# Altium footprint library GNSS.PcbLib: 2 footprints
Each footprint in its own frame and in the unit in brackets; x right, y up, seen from the top. Pads: shape width x height; smd on the part's side, far side on the other; paste and mask are expansions set on the pad; w line width, h text height; cw(c..) or ccw(c..) is an arc to the next point about the centre after c.
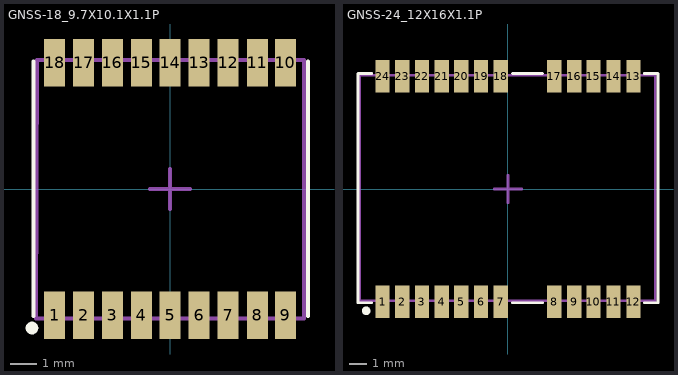
[diagram p0: the footprints below, top view; thin cyan lines are the x and y axes]

## GNSS-18_9.7X10.1X1.1P [mm]
height 2.4
pads (18):
  rect 0.8x1.8 smd: 1(-4.394,-4.813) 2(-3.294,-4.813) 3(-2.193,-4.813) 4(-1.092,-4.813) 5(0.008,-4.813) 6(1.109,-4.813) 7(2.21,-4.813) 8(3.327,-4.813) 9(4.394,-4.813) 10(4.394,4.813) 11(3.327,4.813) 12(2.21,4.813) 13(1.109,4.813) 14(0.008,4.813) 15(-1.092,4.813) 16(-2.193,4.813) 17(-3.294,4.813) 18(-4.394,4.813)
Top Overlay:
  circle w0.254: c-5.258,-5.296 r0.114
  lines w0.152: -5.207,-4.839 -5.207,4.861 ; 5.258,-4.839 5.258,4.861
Mechanical 13:
  lines w0.152: -5.105,-4.94 5.105,-4.94 5.105,4.915 -5.075,4.915 -5.105,-4.94
Mechanical 15:
  lines w0.152: -0.762,0 0.762,0 ; 0,-0.762 0,0.762
3D body "User Library-MAX-M8 u-blox M8 Concurrent GNSS Module.step": height 2.5, standoff 0, extent -5.075,-4.864 5.025,4.838

## GNSS-24_12X16X1.1P [mm]
height 2.4
pads (24):
  rect 0.8x1.8 smd: 1(-7.01,-6.299) 2(-5.91,-6.299) 3(-4.809,-6.299) 4(-3.708,-6.299) 5(-2.608,-6.299) 6(-1.507,-6.299) 7(-0.406,-6.299) 8(2.591,-6.299) 9(3.708,-6.299) 10(4.775,-6.299) 11(5.893,-6.299) 12(7.01,-6.299) 13(7.01,6.299) 14(5.893,6.299) 15(4.775,6.299) 16(3.708,6.299) 17(2.591,6.299) 18(-0.406,6.299) 19(-1.507,6.299) 20(-2.608,6.299) 21(-3.708,6.299) 22(-4.809,6.299) 23(-5.91,6.299) 24(-7.01,6.299)
Top Overlay:
  circle w0.254: c-7.925,-6.807 r0.114
  lines w0.152: -7.62,-6.35 -8.382,-6.35 -8.382,-5.588 -8.382,5.588 -8.382,6.452 -7.62,6.452 ; 0.254,-6.35 1.93,-6.35 ; 0.254,6.452 1.93,6.452 ; 7.62,-6.35 8.382,-6.35 8.382,6.452 7.62,6.452
Mechanical 13:
  lines w0.152: -8.28,-6.248 8.23,-6.248 8.23,6.35 -8.28,6.35 -8.28,-6.248
Mechanical 15:
  lines w0.152: -0.762,0 0.762,0 ; 0,-0.762 0,0.762
3D body "User Library-UBLOX_GPS_NEO-6M.step": height 2.64, standoff 0, extent -8.3,-6.129 8.3,6.231